# EAGLE library part SDCARD (library sdcards)
SD Card Holder
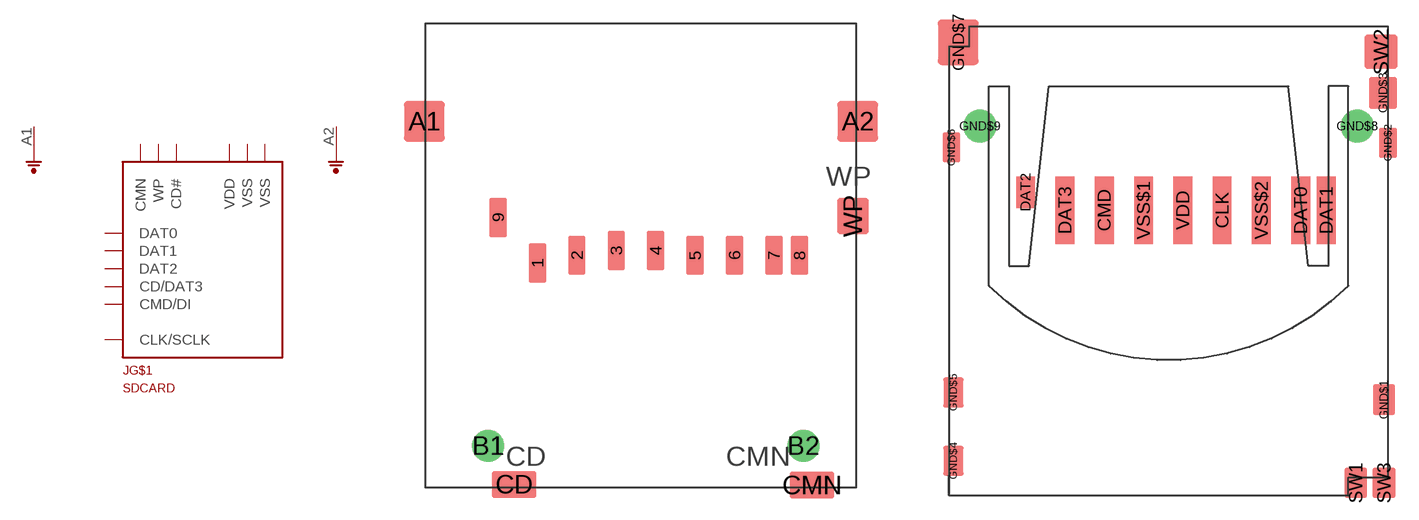
[diagram p1: symbol with the pads of WM24032; footprints WM24032, SDBMF-00915B0T2]

Designator prefix J; gates G$1=SCDARD G$2=GND G$3=GND

## SDCARDDIGIKEY  [WM24032]
1  G$1:CD/DAT3
2  G$1:CMD/DI
3  G$1:VSS  pwr
4  G$1:VDD  pwr
5  G$1:CLK/SCLK
6  G$1:VSS  pwr
7  G$1:DAT0
8  G$1:DAT1
9  G$1:DAT2
A1  G$2:GND  pwr
A2  G$3:GND  pwr
CD  G$1:CD#  out
CMN  G$1:CMN  in
WP  G$1:WP  out

## SDCARDNEWARK  [SDBMF-00915B0T2]
CLK  G$1:CLK/SCLK
CMD  G$1:CMD/DI
DAT0  G$1:DAT0
DAT1  G$1:DAT1
DAT2  G$1:DAT2
DAT3  G$1:CD/DAT3
GND$1  G$2:GND  pwr
GND$5  G$3:GND  pwr
SW1  G$1:CD#  out
SW2  G$1:WP  out
SW3  G$1:CMN  in
VDD  G$1:VDD  pwr
VSS$1  G$1:VSS  pwr
VSS$2  G$1:VSS  pwr

## SDCARDMOUSER  [SCDA1A]
1  G$1:CD/DAT3
2  G$1:CMD/DI
3  G$1:VSS  pwr
4  G$1:VDD  pwr
5  G$1:CLK/SCLK
6  G$1:VSS  pwr
7  G$1:DAT0
8  G$1:DAT1
9  G$1:DAT2
10  G$1:CD#  out
11  G$1:CMN  in
12  G$1:WP  out
13  G$2:GND  pwr
14  G$3:GND  pwr

## SDCARDUNKNOWN  [SDCMF-10915W010]
1  G$1:CD/DAT3
2  G$1:CMD/DI
3  G$1:VSS  pwr
4  G$1:VDD  pwr
5  G$1:CLK/SCLK
6  G$1:VSS  pwr
7  G$1:DAT0
8  G$1:DAT1
9  G$1:DAT2
10  G$1:WP  out
11  G$1:CD#  out
14  G$2:GND  pwr
15  G$1:CMN  in
16  G$3:GND  pwr

## SDCARD  [SCDA5A]
Pads as for SCDA1A

## Footprint WM24032 (pad centres in mm)
500998-0900 (Digikey)
smd 1.1 x 2.5: 1 -6.975,-2.9; 2 -4.475,-2.4; 3 -1.975,-2.1; 4 0.525,-2.1; 5 3.025,-2.4; 6 5.525,-2.4; 7 8.025,-2.4; 8 9.65,-2.4; 9 -9.475,0
smd 2.6 x 2.6: A1 -14.15,6.1; A2 13.35,6.1
drill 1.36 pad 1.46: B1 -10.1,-14.5; B2 9.9,-14.5
smd 2.8 x 1.7: CD -8.45,-16.95; CMN 10.45,-17
smd 2 x 2.3: WP 13.05,0.1

## Footprint SDBMF-00915B0T2 (pad centres in mm)
SDBMF-00915B0T2 (Farnell, Newark)
smd 1.2 x 4.3: CLK 3.1,-1.14; CMD -4.4,-1.14; DAT0 8.1,-1.14; DAT1 9.725,-1.14; DAT3 -6.9,-1.14; VDD 0.6,-1.14; VSS$1 -1.9,-1.14; VSS$2 5.6,-1.14
smd 1.2 x 2: DAT2 -9.4,0.01
smd 1.4 x 1.95: GND$1 13.4,-13.2; SW1 11.6,-18.5
smd 1.143 x 1.905: GND$2 13.654,3.15; GND$6 -14.127,2.85
smd 1.778 x 2.032: GND$3 13.327,6.327
smd 1.3 x 1.9: GND$4 -14,-17.1; GND$5 -14,-12.75
smd 2.6 x 2.9: GND$7 -13.7,9.55
drill 1.4 pad 1.5: GND$8 11.7,4.2; GND$9 -12.3,4.2
smd 2.1 x 2.2: SW2 13.2,8.95
smd 1.45 x 1.95: SW3 13.4,-18.5

## Footprint SCDA1A (pad centres in mm)
SCDA1A0900, SCDA1A0901, SCDA1A0801, SCDA1A1301, SCDA1A1401, SCDA1A1501 (Mouser)
smd 1 x 2.95: 1 -6.865,-10.76; 2 -4.365,-10.76; 3 -1.865,-10.76; 4 0.635,-10.76; 5 3.135,-10.76; 6 5.635,-10.76; 7 8.135,-10.76; 8 10,-10.76; 9 -9.365,-10.76; 10 12.5,-10.76; 13 -11.865,-10.76
smd 1.7 x 1.8: 11 13.85,-4.65
smd 1.7 x 2.9: 12 13.85,16.65
smd 1.9 x 1.8: 14 -13.85,17
hole 1.05 at -12.1,-5.9
hole 1.5 at 12.1,-5.9
hole 1.4 at 12.1,14.2
hole 1.4 at -12.1,14.2

## Footprint SDCMF-10915W010 (pad centres in mm)
SD card connector KINGFONT SDCMF-10915W010
smd 0.711 x 1.422: 1 7.366,13.462; 2 4.826,13.462; 3 2.286,13.462; 4 -0.254,13.462; 5 -2.794,13.462; 6 -5.334,13.462; 7 -7.874,13.462; 8 -9.398,13.462; 9 9.906,13.462; 10 -11.938,13.462; 11 -10.668,13.462
smd 1.27 x 2.54: 12 12.192,11.43; 13 13.97,-10.16; 14 -13.208,-10.16; 15 -13.208,11.43; 16 -13.208,-2.54; 17 13.97,-2.54
hole 1.6 at 9.906,10.414
hole 1.1 at -11.176,10.414

## Footprint SCDA5A (pad centres in mm)
smd 1 x 1.3: 1 -7.525,-0.65; 2 -5.825,-0.65; 3 -4.125,-0.65; 3A -2.425,-0.65; 4 -0.725,-0.65; 4A 0.975,-0.65; 5 2.675,-0.65; 6 4.375,-0.65; 7 6.075,-0.65; 8 7.775,-0.65; 9 -9.225,-0.65; 10 11.175,-0.65; 11 9.475,-0.65
smd 1.4 x 1.4: 12 14.2,-19.955; 13 14.2,-25.875; 14 -13.475,-28.975
hole 0.61 at 12.875,-1.235
hole 0.61 at -12.125,-1.235